# Altium footprint library DB_CONN.PcbLib: 18 footprints (part 1 of 2)
Each footprint in its own frame and in the unit in brackets; x right, y up, seen from the top. Pads: shape width x height; smd on the part's side, far side on the other; paste and mask are expansions set on the pad; w line width, h text height; cw(c..) or ccw(c..) is an arc to the next point about the centre after c.
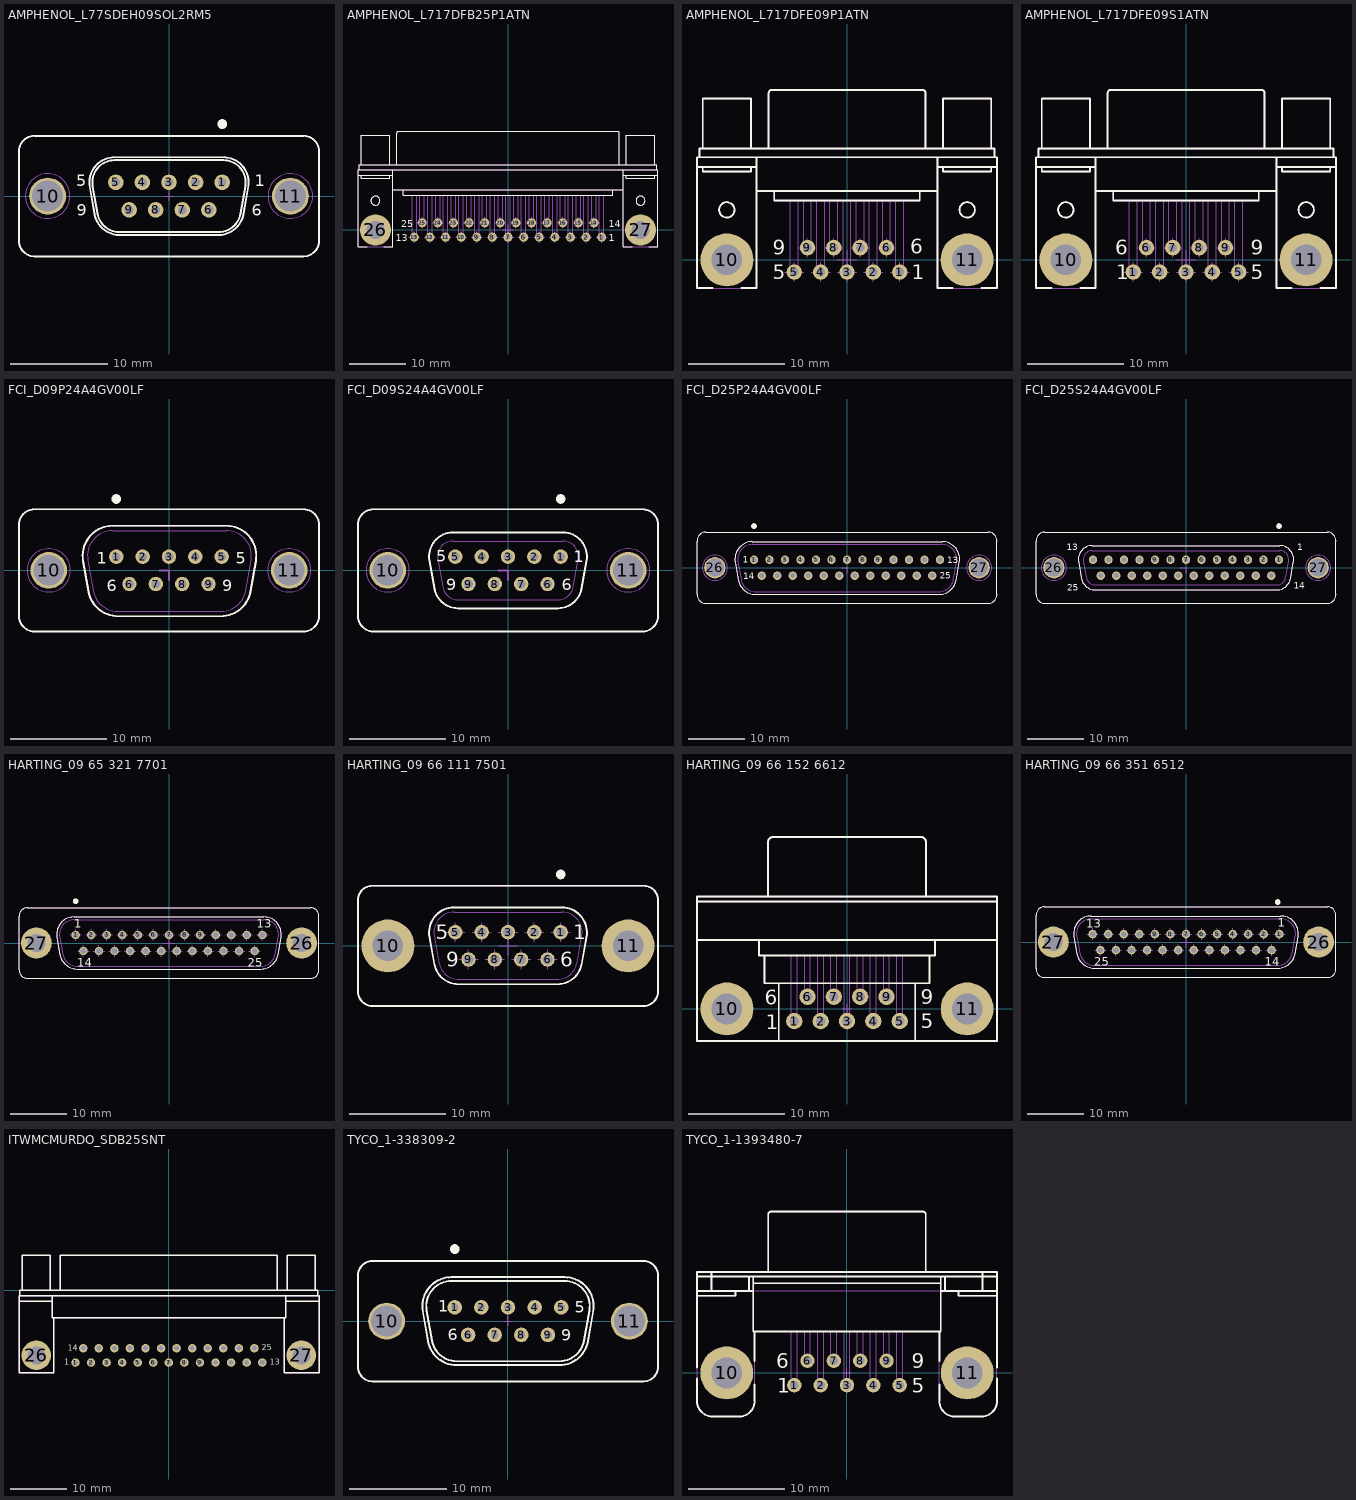
[diagram p0: the footprints below, top view; thin cyan lines are the x and y axes]

## AMPHENOL_L77SDEH09SOL2RM5 [mm] "Straight D-SUB 9 Female Contacts for PCB with Rear Insert (UNC4-40) and RM5 Standoff Boardlock"
height 13
pads (11):
  round 1.6 hole 0.9: 1(5.48,1.42) 2(2.74,1.42) 3(0,1.42) 4(-2.74,1.42) 5(-5.48,1.42) 6(4.11,-1.42) 7(1.37,-1.42) 8(-1.37,-1.42) 9(-4.11,-1.42)
  round 3.8 hole 3.2: 10(-12.495,0) 11(12.495,0)
Top Overlay:
  circle w0.5: c5.48,7.42 r0.25
  lines w0.2: -15.445,-4.61 ccw(c-13.845,-4.61) -13.845,-6.21 13.845,-6.21 ccw(c13.845,-4.61) 15.445,-4.61 15.445,4.61 ccw(c13.845,4.61) 13.845,6.21 -13.845,6.21 ccw(c-13.845,4.61) -15.445,4.61 -15.445,-4.61 ; -8.161,0.949 cw(c-5.6,1.4) -5.6,4 5.6,4 cw(c5.6,1.4) 8.16,0.949 7.667,-1.851 cw(c5.106,-1.4) 5.106,-4 -5.106,-4 cw(c-5.106,-1.4) -7.667,-1.851 -8.161,0.949 ; -7.865,1.001 cw(c-5.6,1.4) -5.6,3.7 5.6,3.7 cw(c5.6,1.4) 7.865,1.001 7.371,-1.799 cw(c5.106,-1.4) 5.106,-3.7 -5.106,-3.7 cw(c-5.106,-1.4) -7.372,-1.799 -7.865,1.001
  text "1" at 8.85,1 h1.2
  text "5" at -9.525,1 h1.2
  text "6" at 8.525,-2.05 h1.2
  text "9" at -9.5,-2.025 h1.2
Mechanical 8:
  lines w0.1: -12.995,0 -12.495,0 ; -12.495,-0.5 -12.495,0 ; -12.495,0.5 -12.495,0 ; -11.995,0 -12.495,0 ; -5.98,1.42 -5.48,1.42 ; -5.48,0.92 -5.48,1.42 ; -5.48,1.92 -5.48,1.42 ; -4.98,1.42 -5.48,1.42 ; -4.61,-1.42 -4.11,-1.42 ; -4.11,-1.92 -4.11,-1.42 ; -4.11,-0.92 -4.11,-1.42 ; -3.61,-1.42 -4.11,-1.42 ; -3.24,1.42 -2.74,1.42 ; -2.74,0.92 -2.74,1.42 ; -2.74,1.92 -2.74,1.42 ; -2.24,1.42 -2.74,1.42 ; -1.87,-1.42 -1.37,-1.42 ; -1.37,-1.92 -1.37,-1.42 ; -1.37,-0.92 -1.37,-1.42 ; -0.87,-1.42 -1.37,-1.42 ; -0.5,0 0,0 ; -0.5,1.42 0,1.42 ; 0,-0.5 0,0 ; 0,0.5 0,0 ; 0,0.92 0,1.42 ; 0,1.92 0,1.42 ; 0.5,0 0,0 ; 0.5,1.42 0,1.42 ; 0.87,-1.42 1.37,-1.42 ; 1.37,-1.92 1.37,-1.42 ; 1.37,-0.92 1.37,-1.42 ; 1.87,-1.42 1.37,-1.42 ; 2.24,1.42 2.74,1.42 ; 2.74,0.92 2.74,1.42 ; 2.74,1.92 2.74,1.42 ; 3.24,1.42 2.74,1.42 ; 3.61,-1.42 4.11,-1.42 ; 4.11,-1.92 4.11,-1.42 ; 4.11,-0.92 4.11,-1.42 ; 4.61,-1.42 4.11,-1.42 ; 4.98,1.42 5.48,1.42 ; 5.48,0.92 5.48,1.42 ; 5.48,1.92 5.48,1.42 ; 5.98,1.42 5.48,1.42 ; 11.995,0 12.495,0 ; 12.495,-0.5 12.495,0 ; 12.495,0.5 12.495,0 ; 12.995,0 12.495,0
Mechanical 14:
  circle w0.1: c12.495,0 r1.5
  circle w0.1: c12.495,0 r2.3
  circle w0.1: c-12.495,0 r1.5
  circle w0.1: c-12.495,0 r2.3
  circle w0.1: c1.37,-1.42 r0.4
  circle w0.1: c4.11,-1.42 r0.4
  circle w0.1: c5.48,1.42 r0.4
  circle w0.1: c2.74,1.42 r0.4
  circle w0.1: c0,1.42 r0.4
  circle w0.1: c-1.37,-1.42 r0.4
  circle w0.1: c-4.11,-1.42 r0.4
  circle w0.1: c-2.74,1.42 r0.4
  circle w0.1: c-5.48,1.42 r0.4
  lines w0.1: -15.445,-4.61 ccw(c-13.845,-4.61) -13.845,-6.21 13.845,-6.21 ccw(c13.845,-4.61) 15.445,-4.61 15.445,4.61 ccw(c13.845,4.61) 13.845,6.21 -13.845,6.21 ccw(c-13.845,4.61) -15.445,4.61 -15.445,-4.61 ; -8.161,0.949 cw(c-5.6,1.4) -5.6,4 5.6,4 cw(c5.6,1.4) 8.16,0.949 7.667,-1.851 cw(c5.106,-1.4) 5.106,-4 -5.106,-4 cw(c-5.106,-1.4) -7.667,-1.851 -8.161,0.949 ; -7.865,1.001 cw(c-5.6,1.4) -5.6,3.7 5.6,3.7 cw(c5.6,1.4) 7.865,1.001 7.371,-1.799 cw(c5.106,-1.4) 5.106,-3.7 -5.106,-3.7 cw(c-5.106,-1.4) -7.372,-1.799 -7.865,1.001
  text "9" at -9.5,-2.025 h1.2
  text "6" at 8.525,-2.05 h1.2
  text "5" at -9.525,1 h1.2
  text "1" at 8.85,1 h1.2
3D body "AMPHENOL_L77SDEH09SOL2RM5.stp": height 13, standoff -4.2, extent -15.445,-6.21 15.445,6.21

## AMPHENOL_L717DFB25P1ATN [mm] "Right Angled D-Sub 25 Male Contacts with Metal Bracket and Front Female Screwlock (UNC4-40)"
height 13.4
pads (27):
  round 1.6 hole 0.9: 1(16.62,-1.27) 2(13.85,-1.27) 3(11.08,-1.27) 4(8.31,-1.27) 5(5.54,-1.27) 6(2.77,-1.27) 7(0,-1.27) 8(-2.77,-1.27) 9(-5.54,-1.27) 10(-8.31,-1.27) 11(-11.08,-1.27) 12(-13.85,-1.27) 13(-16.62,-1.27) 14(15.25,1.27) 15(12.48,1.27) 16(9.71,1.27) 17(6.94,1.27) 18(4.17,1.27) 19(1.4,1.27) 20(-1.37,1.27) 21(-4.14,1.27) 22(-6.91,1.27) 23(-9.68,1.27) 24(-12.45,1.27) 25(-15.22,1.27)
  round 5.5 hole 3.2: 26(-23.5,0) 27(23.5,0)
Top Overlay:
  circle w0.2: c-23.5,5.2 r0.8
  circle w0.2: c23.5,5.2 r0.8
  lines w0.2: -26.35,10.67 -26.35,11.57 26.35,11.57 26.35,10.67 ; -26,9.67 -26,9.17 -21,9.17 -21,9.67 ; -26,11.57 -26,16.77 -21,16.77 -21,11.57 ; -25,-2.93 -26.6,-2.93 -26.6,10.67 26.6,10.67 26.6,-2.93 25,-2.93 ; -22,-2.93 -20.4,-2.93 -20.4,10.67 ; -20.539,9.67 -26.6,9.67 -20.4,9.67 ; -20.4,7.17 20.4,7.17 ; -19.751,11.57 -19.751,17.17 cw(c-19.451,17.17) -19.451,17.47 19.452,17.47 cw(c19.452,17.17) 19.752,17.17 19.752,11.57 ; -18.57,7.17 -18.57,6.17 18.57,6.17 18.57,7.17 ; 20.4,9.67 26.6,9.67 ; 20.4,10.67 20.4,-2.93 22,-2.93 ; 21,9.67 21,9.17 26,9.17 26,9.67 ; 21,11.57 21,16.77 26,16.77 26,11.57
  text "1" at 17.871,-2.032 h1.2
  text "14" at 17.871,0.508 h1.2
  text "13" at -19.9,-2 h1.2
  text "25" at -18.887,0.508 h1.2
Mechanical 8:
  lines w0.1: -24.5,0 -23.5,0 ; -23.5,-1 -23.5,0 ; -23.5,1 -23.5,0 ; -22.5,0 -23.5,0 ; -17.62,-1.27 -16.62,-1.27 ; -16.62,-2.27 -16.62,-1.27 ; -16.62,-0.27 -16.62,-1.27 ; -16.22,1.27 -15.22,1.27 ; -15.62,-1.27 -16.62,-1.27 ; -15.22,0.27 -15.22,1.27 ; -15.22,2.27 -15.22,1.27 ; -14.85,-1.27 -13.85,-1.27 ; -14.22,1.27 -15.22,1.27 ; -13.85,-2.27 -13.85,-1.27 ; -13.85,-0.27 -13.85,-1.27 ; -13.45,1.27 -12.45,1.27 ; -12.85,-1.27 -13.85,-1.27 ; -12.45,0.27 -12.45,1.27 ; -12.45,2.27 -12.45,1.27 ; -12.08,-1.27 -11.08,-1.27 ; -11.45,1.27 -12.45,1.27 ; -11.08,-2.27 -11.08,-1.27 ; -11.08,-0.27 -11.08,-1.27 ; -10.68,1.27 -9.68,1.27 ; -10.08,-1.27 -11.08,-1.27 ; -9.68,0.27 -9.68,1.27 ; -9.68,2.27 -9.68,1.27 ; -9.31,-1.27 -8.31,-1.27 ; -8.68,1.27 -9.68,1.27 ; -8.31,-2.27 -8.31,-1.27 ; -8.31,-0.27 -8.31,-1.27 ; -7.91,1.27 -6.91,1.27 ; -7.31,-1.27 -8.31,-1.27 ; -6.91,0.27 -6.91,1.27 ; -6.91,2.27 -6.91,1.27 ; -6.54,-1.27 -5.54,-1.27 ; -5.91,1.27 -6.91,1.27 ; -5.54,-2.27 -5.54,-1.27 ; -5.54,-0.27 -5.54,-1.27 ; -5.14,1.27 -4.14,1.27 ; -4.54,-1.27 -5.54,-1.27 ; -4.14,0.27 -4.14,1.27 ; -4.14,2.27 -4.14,1.27 ; -3.77,-1.27 -2.77,-1.27 ; -3.14,1.27 -4.14,1.27 ; -2.77,-2.27 -2.77,-1.27 ; -2.77,-0.27 -2.77,-1.27 ; -2.37,1.27 -1.37,1.27 ; -1.77,-1.27 -2.77,-1.27 ; -1.37,0.27 -1.37,1.27 ; -1.37,2.27 -1.37,1.27 ; -1,-1.27 0,-1.27 ; -0.37,1.27 -1.37,1.27 ; 0,-2.27 0,-1.27 ; 0,-0.27 0,-1.27 ; 0.4,1.27 1.4,1.27 ; 1,-1.27 0,-1.27 ; 1.4,0.27 1.4,1.27 ; 1.4,2.27 1.4,1.27 ; 1.77,-1.27 2.77,-1.27 ; 2.4,1.27 1.4,1.27 ; 2.77,-2.27 2.77,-1.27 ; 2.77,-0.27 2.77,-1.27 ; 3.17,1.27 4.17,1.27 ; 3.77,-1.27 2.77,-1.27 ; 4.17,0.27 4.17,1.27 ; 4.17,2.27 4.17,1.27 ; 4.54,-1.27 5.54,-1.27 ; 5.17,1.27 4.17,1.27 ; 5.54,-2.27 5.54,-1.27 ; 5.54,-0.27 5.54,-1.27 ; 5.94,1.27 6.94,1.27 ; 6.54,-1.27 5.54,-1.27 ; 6.94,0.27 6.94,1.27 ; 6.94,2.27 6.94,1.27 ; 7.31,-1.27 8.31,-1.27 ; 7.94,1.27 6.94,1.27 ; 8.31,-2.27 8.31,-1.27 ; 8.31,-0.27 8.31,-1.27 ; 8.71,1.27 9.71,1.27 ; 9.31,-1.27 8.31,-1.27 ; 9.71,0.27 9.71,1.27 ; 9.71,2.27 9.71,1.27 ; 10.08,-1.27 11.08,-1.27 ; 10.71,1.27 9.71,1.27 ; 11.08,-2.27 11.08,-1.27 ; 11.08,-0.27 11.08,-1.27 ; 11.48,1.27 12.48,1.27 ; 12.08,-1.27 11.08,-1.27 ; 12.48,0.27 12.48,1.27 ; 12.48,2.27 12.48,1.27 ; 12.85,-1.27 13.85,-1.27 ; 13.48,1.27 12.48,1.27 ; 13.85,-2.27 13.85,-1.27 ; 13.85,-0.27 13.85,-1.27 ; 14.25,1.27 15.25,1.27 ; 14.85,-1.27 13.85,-1.27 ; 15.25,0.27 15.25,1.27 ; 15.25,2.27 15.25,1.27 ; 15.62,-1.27 16.62,-1.27 ; 16.25,1.27 15.25,1.27 ; 16.62,-2.27 16.62,-1.27 ; 16.62,-0.27 16.62,-1.27 ; 17.62,-1.27 16.62,-1.27 ; 22.5,0 23.5,0 ; 23.5,-1 23.5,0 ; 23.5,1 23.5,0 ; 24.5,0 23.5,0 ; 0,0 0,-1 0,0 ; 0,0 0,1 0,0 ; 0,0 1,0 0,0 ; 0,0 -1,0 0,0
Mechanical 14:
  circle w0.1: c-23.5,0 r1.6
  circle w0.1: c-23.5,5.2 r0.8
  circle w0.1: c23.5,5.2 r0.8
  circle w0.1: c23.5,0 r1.6
  lines w0.1: -26.35,10.67 -26.35,11.57 26.35,11.57 26.35,10.67 ; -26,9.67 -26,9.17 -21,9.17 -21,9.67 ; -26,11.57 -26,16.77 -21,16.77 -21,11.57 ; -20.539,9.67 -26.6,9.67 -20.4,9.67 ; -20.4,7.17 20.4,7.17 ; -20.4,10.67 -20.4,-2.93 -26.6,-2.93 -26.6,10.67 26.6,10.67 26.6,-2.93 20.4,-2.93 20.4,10.67 ; -19.751,11.57 -19.751,17.17 cw(c-19.451,17.17) -19.451,17.47 19.452,17.47 cw(c19.452,17.17) 19.752,17.17 19.752,11.57 ; -18.57,7.17 -18.57,6.17 18.57,6.17 18.57,7.17 ; -17.02,6.17 -17.02,-1.27 ccw(c-16.62,-1.27) -16.22,-1.27 -16.22,6.17 ; -15.62,6.17 -15.62,1.27 ccw(c-15.22,1.27) -14.82,1.27 -14.82,6.17 ; -14.25,6.17 -14.25,-1.27 ccw(c-13.85,-1.27) -13.45,-1.27 -13.45,6.17 ; -12.85,6.17 -12.85,1.27 ccw(c-12.45,1.27) -12.05,1.27 -12.05,6.17 ; -11.48,6.17 -11.48,-1.27 ccw(c-11.08,-1.27) -10.68,-1.27 -10.68,6.17 ; -10.08,6.17 -10.08,1.27 ccw(c-9.68,1.27) -9.28,1.27 -9.28,6.17 ; -8.71,6.17 -8.71,-1.27 ccw(c-8.31,-1.27) -7.91,-1.27 -7.91,6.17 ; -7.31,6.17 -7.31,1.27 ccw(c-6.91,1.27) -6.51,1.27 -6.51,6.17 ; -5.94,6.17 -5.94,-1.27 ccw(c-5.54,-1.27) -5.14,-1.27 -5.14,6.17 ; -4.54,6.17 -4.54,1.27 ccw(c-4.14,1.27) -3.74,1.27 -3.74,6.17 ; -3.17,6.17 -3.17,-1.27 ccw(c-2.77,-1.27) -2.37,-1.27 -2.37,6.17 ; -1.77,6.17 -1.77,1.27 ccw(c-1.37,1.27) -0.97,1.27 -0.97,6.17 ; -0.4,6.17 -0.4,-1.27 ccw(c0,-1.27) 0.4,-1.27 0.4,6.17 ; 1,6.17 1,1.27 ccw(c1.4,1.27) 1.8,1.27 1.8,6.17 ; 2.37,6.17 2.37,-1.27 ccw(c2.77,-1.27) 3.17,-1.27 3.17,6.17 ; 3.77,6.17 3.77,1.27 ccw(c4.17,1.27) 4.57,1.27 4.57,6.17 ; 5.14,6.17 5.14,-1.27 ccw(c5.54,-1.27) 5.94,-1.27 5.94,6.17 ; 6.54,6.17 6.54,1.27 ccw(c6.94,1.27) 7.34,1.27 7.34,6.17 ; 7.91,6.17 7.91,-1.27 ccw(c8.31,-1.27) 8.71,-1.27 8.71,6.17 ; 9.31,6.17 9.31,1.27 ccw(c9.71,1.27) 10.11,1.27 10.11,6.17 ; 10.68,6.17 10.68,-1.27 ccw(c11.08,-1.27) 11.48,-1.27 11.48,6.17 ; 12.08,6.17 12.08,1.27 ccw(c12.48,1.27) 12.88,1.27 12.88,6.17 ; 13.45,6.17 13.45,-1.27 ccw(c13.85,-1.27) 14.25,-1.27 14.25,6.17 ; 14.85,6.17 14.85,1.27 ccw(c15.25,1.27) 15.65,1.27 15.65,6.17 ; 16.22,6.17 16.22,-1.27 ccw(c16.62,-1.27) 17.02,-1.27 17.02,6.17 ; 20.4,9.67 26.6,9.67 ; 21,9.67 21,9.17 26,9.17 26,9.67 ; 21,11.57 21,16.77 26,16.77 26,11.57
3D body "AMPHENOL_L717DFA25P1ATN.stp": height 13.45, standoff -3.95, extent -26.6,-2.93 26.6,17.47

## AMPHENOL_L717DFE09P1ATN [mm] "Right Angled D-Sub 9 Male Contacts with Metal Bracket and Front Female Screwlock (UNC4-40)"
height 13.4
pads (11):
  round 1.6 hole 0.9: 1(5.48,-1.27) 2(2.74,-1.27) 3(0,-1.27) 4(-2.74,-1.27) 5(-5.48,-1.27) 6(4.11,1.27) 7(1.37,1.27) 8(-1.37,1.27) 9(-4.11,1.27)
  round 5.5 hole 3.2: 10(-12.495,0) 11(12.495,0)
Top Overlay:
  circle w0.2: c-12.5,5.2 r0.8
  circle w0.2: c12.5,5.2 r0.8
  lines w0.2: -15.35,10.67 -15.35,11.57 15.35,11.57 15.35,10.67 ; -15,9.67 -15,9.17 -10,9.17 -10,9.67 ; -15,11.57 -15,16.77 -10,16.77 -10,11.57 ; -14,-2.93 -15.6,-2.93 -15.6,10.67 15.6,10.67 15.6,-2.93 14,-2.93 ; -11,-2.93 -9.4,-2.93 -9.4,10.67 ; -9.539,9.67 -15.6,9.67 -9.4,9.67 ; -9.4,7.17 9.4,7.17 ; -8.142,11.57 -8.142,17.37 cw(c-7.842,17.37) -7.842,17.67 7.861,17.67 cw(c7.861,17.37) 8.161,17.37 8.161,11.57 ; -7.57,7.17 -7.57,6.17 7.57,6.17 7.57,7.17 ; 9.4,9.67 15.6,9.67 ; 9.4,10.67 9.4,-2.93 11,-2.93 ; 10,9.67 10,9.17 15,9.17 15,9.67 ; 10,11.57 10,16.77 15,16.77 15,11.57
  text "6" at 6.604,0.635 h1.5
  text "5" at -7.747,-2.032 h1.5
  text "1" at 6.731,-2.032 h1.5
  text "9" at -7.747,0.508 h1.5
Mechanical 8:
  lines w0.1: -13.5,0 -12.5,0 ; -12.5,-1 -12.5,0 ; -12.5,1 -12.5,0 ; -11.5,0 -12.5,0 ; -6.48,-1.27 -5.48,-1.27 ; -5.48,-2.27 -5.48,-1.27 ; -5.48,-0.27 -5.48,-1.27 ; -5.11,1.27 -4.11,1.27 ; -4.48,-1.27 -5.48,-1.27 ; -4.11,0.27 -4.11,1.27 ; -4.11,2.27 -4.11,1.27 ; -3.74,-1.27 -2.74,-1.27 ; -3.11,1.27 -4.11,1.27 ; -2.74,-2.27 -2.74,-1.27 ; -2.74,-0.27 -2.74,-1.27 ; -2.37,1.27 -1.37,1.27 ; -1.74,-1.27 -2.74,-1.27 ; -1.37,0.27 -1.37,1.27 ; -1.37,2.27 -1.37,1.27 ; -1,-1.27 0,-1.27 ; -1,0 0,0 ; -0.37,1.27 -1.37,1.27 ; 0,-2.27 0,-1.27 ; 0,-1 0,0 ; 0,-0.27 0,-1.27 ; 0,1 0,0 ; 0.37,1.27 1.37,1.27 ; 1,-1.27 0,-1.27 ; 1,0 0,0 ; 1.37,0.27 1.37,1.27 ; 1.37,2.27 1.37,1.27 ; 1.74,-1.27 2.74,-1.27 ; 2.37,1.27 1.37,1.27 ; 2.74,-2.27 2.74,-1.27 ; 2.74,-0.27 2.74,-1.27 ; 3.11,1.27 4.11,1.27 ; 3.74,-1.27 2.74,-1.27 ; 4.11,0.27 4.11,1.27 ; 4.11,2.27 4.11,1.27 ; 4.48,-1.27 5.48,-1.27 ; 5.11,1.27 4.11,1.27 ; 5.48,-2.27 5.48,-1.27 ; 5.48,-0.27 5.48,-1.27 ; 6.48,-1.27 5.48,-1.27 ; 11.5,0 12.5,0 ; 12.5,-1 12.5,0 ; 12.5,1 12.5,0 ; 13.5,0 12.5,0
Mechanical 14:
  circle w0.1: c-12.5,0 r1.6
  circle w0.1: c-12.5,5.2 r0.8
  circle w0.1: c12.5,5.2 r0.8
  circle w0.1: c12.5,0 r1.6
  lines w0.1: -15.35,10.67 -15.35,11.57 15.35,11.57 15.35,10.67 ; -15,9.67 -15,9.17 -10,9.17 -10,9.67 ; -15,11.57 -15,16.77 -10,16.77 -10,11.57 ; -9.539,9.67 -15.6,9.67 -9.4,9.67 ; -9.4,7.17 9.4,7.17 ; -9.4,10.67 -9.4,-2.93 -15.6,-2.93 -15.6,10.67 15.6,10.67 15.6,-2.93 9.4,-2.93 9.4,10.67 ; -8.142,11.57 -8.142,17.37 cw(c-7.842,17.37) -7.842,17.67 7.861,17.67 cw(c7.861,17.37) 8.161,17.37 8.161,11.57 ; -7.57,7.17 -7.57,6.17 7.57,6.17 7.57,7.17 ; -5.88,6.17 -5.88,-1.27 ccw(c-5.48,-1.27) -5.08,-1.27 -5.08,6.17 ; -4.51,6.17 -4.51,1.27 ccw(c-4.11,1.27) -3.71,1.27 -3.71,6.17 ; -3.14,6.17 -3.14,-1.27 ccw(c-2.74,-1.27) -2.34,-1.27 -2.34,6.17 ; -1.77,6.17 -1.77,1.27 ccw(c-1.37,1.27) -0.97,1.27 -0.97,6.17 ; -0.4,6.17 -0.4,-1.27 ccw(c0,-1.27) 0.4,-1.27 0.4,6.17 ; 0.97,6.17 0.97,1.27 ccw(c1.37,1.27) 1.77,1.27 1.77,6.17 ; 2.34,6.17 2.34,-1.27 ccw(c2.74,-1.27) 3.14,-1.27 3.14,6.17 ; 3.71,6.17 3.71,1.27 ccw(c4.11,1.27) 4.51,1.27 4.51,6.17 ; 5.08,6.17 5.08,-1.27 ccw(c5.48,-1.27) 5.88,-1.27 5.88,6.17 ; 9.4,9.67 15.6,9.67 ; 10,9.67 10,9.17 15,9.17 15,9.67 ; 10,11.57 10,16.77 15,16.77 15,11.57
3D body "AMPHENOL_L717DFE09P1ATN.stp": height 13.45, standoff -3.95, extent -15.6,-2.93 15.6,17.67

## AMPHENOL_L717DFE09S1ATN [mm] "Right Angled D-Sub 9 Female Contacts with Metal Bracket and Front Female Screwlock (UNC4-40)"
height 13.4
pads (11):
  round 1.6 hole 0.9: 1(-5.48,-1.27) 2(-2.74,-1.27) 3(0,-1.27) 4(2.74,-1.27) 5(5.48,-1.27) 6(-4.11,1.27) 7(-1.37,1.27) 8(1.37,1.27) 9(4.11,1.27)
  round 5.5 hole 3.2: 10(-12.495,0) 11(12.495,0)
Top Overlay:
  circle w0.2: c12.5,5.2 r0.8
  circle w0.2: c-12.5,5.2 r0.8
  lines w0.2: -15.35,10.67 -15.35,11.57 15.35,11.57 15.35,10.67 ; -15,9.67 -15,9.17 -10,9.17 -10,9.67 ; -15,11.57 -15,16.77 -10,16.77 -10,11.57 ; -14,-2.93 -15.6,-2.93 -15.6,10.67 15.6,10.67 15.6,-2.93 14,-2.93 ; -11,-2.93 -9.4,-2.93 -9.4,10.67 ; -9.539,9.67 -15.6,9.67 -9.4,9.67 ; -9.4,7.17 9.4,7.17 ; -8.142,11.57 -8.142,17.37 cw(c-7.842,17.37) -7.842,17.67 7.861,17.67 cw(c7.861,17.37) 8.161,17.37 8.161,11.57 ; -7.57,7.17 -7.57,6.17 7.57,6.17 7.57,7.17 ; 9.4,9.67 15.6,9.67 ; 9.4,10.67 9.4,-2.93 11,-2.93 ; 10,9.67 10,9.17 15,9.17 15,9.67 ; 10,11.57 10,16.77 15,16.77 15,11.57
  text "6" at -7.366,0.508 h1.5
  text "5" at 6.731,-2.032 h1.5
  text "1" at -7.239,-2.032 h1.5
  text "9" at 6.731,0.508 h1.5
Mechanical 8:
  lines w0.1: -13.5,0 -12.5,0 ; -12.5,-1 -12.5,0 ; -12.5,1 -12.5,0 ; -11.5,0 -12.5,0 ; -6.48,-1.27 -5.48,-1.27 ; -5.48,-2.27 -5.48,-1.27 ; -5.48,-0.27 -5.48,-1.27 ; -5.11,1.27 -4.11,1.27 ; -4.48,-1.27 -5.48,-1.27 ; -4.11,0.27 -4.11,1.27 ; -4.11,2.27 -4.11,1.27 ; -3.74,-1.27 -2.74,-1.27 ; -3.11,1.27 -4.11,1.27 ; -2.74,-2.27 -2.74,-1.27 ; -2.74,-0.27 -2.74,-1.27 ; -2.37,1.27 -1.37,1.27 ; -1.74,-1.27 -2.74,-1.27 ; -1.37,0.27 -1.37,1.27 ; -1.37,2.27 -1.37,1.27 ; -1,-1.27 0,-1.27 ; -1,0 0,0 ; -0.37,1.27 -1.37,1.27 ; 0,-2.27 0,-1.27 ; 0,-1 0,0 ; 0,-0.27 0,-1.27 ; 0,1 0,0 ; 0.37,1.27 1.37,1.27 ; 1,-1.27 0,-1.27 ; 1,0 0,0 ; 1.37,0.27 1.37,1.27 ; 1.37,2.27 1.37,1.27 ; 1.74,-1.27 2.74,-1.27 ; 2.37,1.27 1.37,1.27 ; 2.74,-2.27 2.74,-1.27 ; 2.74,-0.27 2.74,-1.27 ; 3.11,1.27 4.11,1.27 ; 3.74,-1.27 2.74,-1.27 ; 4.11,0.27 4.11,1.27 ; 4.11,2.27 4.11,1.27 ; 4.48,-1.27 5.48,-1.27 ; 5.11,1.27 4.11,1.27 ; 5.48,-2.27 5.48,-1.27 ; 5.48,-0.27 5.48,-1.27 ; 6.48,-1.27 5.48,-1.27 ; 11.5,0 12.5,0 ; 12.5,-1 12.5,0 ; 12.5,1 12.5,0 ; 13.5,0 12.5,0
Mechanical 14:
  circle w0.1: c12.5,0 r1.6
  circle w0.1: c12.5,5.2 r0.8
  circle w0.1: c-12.5,5.2 r0.8
  circle w0.1: c-12.5,0 r1.6
  lines w0.1: -15.35,10.67 -15.35,11.57 15.35,11.57 15.35,10.67 ; -15,9.67 -15,9.17 -10,9.17 -10,9.67 ; -15,11.57 -15,16.77 -10,16.77 -10,11.57 ; -9.539,9.67 -15.6,9.67 -9.4,9.67 ; -9.4,7.17 9.4,7.17 ; -9.4,10.67 -9.4,-2.93 -15.6,-2.93 -15.6,10.67 15.6,10.67 15.6,-2.93 9.4,-2.93 9.4,10.67 ; -8.142,11.57 -8.142,17.37 cw(c-7.842,17.37) -7.842,17.67 7.861,17.67 cw(c7.861,17.37) 8.161,17.37 8.161,11.57 ; -7.57,7.17 -7.57,6.17 7.57,6.17 7.57,7.17 ; -5.88,6.17 -5.88,-1.27 ccw(c-5.48,-1.27) -5.08,-1.27 -5.08,6.17 ; -4.51,6.17 -4.51,1.27 ccw(c-4.11,1.27) -3.71,1.27 -3.71,6.17 ; -3.14,6.17 -3.14,-1.27 ccw(c-2.74,-1.27) -2.34,-1.27 -2.34,6.17 ; -1.77,6.17 -1.77,1.27 ccw(c-1.37,1.27) -0.97,1.27 -0.97,6.17 ; -0.4,6.17 -0.4,-1.27 ccw(c0,-1.27) 0.4,-1.27 0.4,6.17 ; 0.97,6.17 0.97,1.27 ccw(c1.37,1.27) 1.77,1.27 1.77,6.17 ; 2.34,6.17 2.34,-1.27 ccw(c2.74,-1.27) 3.14,-1.27 3.14,6.17 ; 3.71,6.17 3.71,1.27 ccw(c4.11,1.27) 4.51,1.27 4.51,6.17 ; 5.08,6.17 5.08,-1.27 ccw(c5.48,-1.27) 5.88,-1.27 5.88,6.17 ; 9.4,9.67 15.6,9.67 ; 10,9.67 10,9.17 15,9.17 15,9.67 ; 10,11.57 10,16.77 15,16.77 15,11.57
3D body "AMPHENOL_L717DFE09S1ATN.stp": height 13.45, standoff -3.95, extent -15.6,-2.93 15.6,17.67

## FCI_D09P24A4GV00LF [mm] "Straight D-SUB 9 Male Contacts for PCB  with Harpoons and Female Screwlock (UNC4-40) and Elec. Continuity"
height 12.25
pads (11):
  round 1.5 hole 0.9: 1(-5.48,1.42) 2(-2.74,1.42) 3(0,1.42) 4(2.74,1.42) 5(5.48,1.42) 6(-4.11,-1.42) 7(-1.37,-1.42) 8(1.37,-1.42) 9(4.11,-1.42)
  round 3.8 hole 3.2: 10(-12.495,0) 11(12.495,0)
Top Overlay:
  circle w0.5: c-5.48,7.42 r0.25
  lines w0.2: -15.595,-4.75 ccw(c-13.995,-4.75) -13.995,-6.35 13.995,-6.35 ccw(c13.995,-4.75) 15.595,-4.75 15.595,4.75 ccw(c13.995,4.75) 13.995,6.35 -13.995,6.35 ccw(c-13.995,4.75) -15.595,4.75 -15.595,-4.75 ; -8.928,0.978 cw(c-5.855,1.52) -5.855,4.64 5.955,4.64 cw(c5.955,1.52) 9.028,0.978 8.469,-2.192 cw(c5.396,-1.65) 5.396,-4.77 -5.296,-4.77 cw(c-5.296,-1.65) -8.369,-2.192 -8.928,0.978
  text "9" at 5.535,-2.17 h1.2
  text "1" at -7.505,0.67 h1.2
  text "5" at 6.93,0.695 h1.2
  text "6" at -6.46,-2.17 h1.2
Mechanical 8:
  lines w0.2: -1,0 0,0 0,-1
Mechanical 14:
  circle w0.1: c12.495,0 r2.25
  circle w0.1: c-12.495,0 r2.25
  lines w0.1: -15.595,-4.75 ccw(c-13.995,-4.75) -13.995,-6.35 13.995,-6.35 ccw(c13.995,-4.75) 15.595,-4.75 15.595,4.75 ccw(c13.995,4.75) 13.995,6.35 -13.995,6.35 ccw(c-13.995,4.75) -15.595,4.75 -15.595,-4.75 ; -8.928,0.978 cw(c-5.855,1.52) -5.855,4.64 5.955,4.64 cw(c5.955,1.52) 9.028,0.978 8.469,-2.192 cw(c5.396,-1.65) 5.396,-4.77 -5.296,-4.77 cw(c-5.296,-1.65) -8.369,-2.192 -8.928,0.978 ; -8.435,1.065 cw(c-5.855,1.52) -5.855,4.14 5.955,4.14 cw(c5.955,1.52) 8.535,1.065 7.976,-2.105 cw(c5.396,-1.65) 5.396,-4.27 -5.296,-4.27 cw(c-5.296,-1.65) -7.876,-2.105 -8.435,1.065
  text "9 D-Sub Male" at -6.053,4.872 h1.2
  text "6" at -6.46,-2.17 h1.2
  text "5" at 6.93,0.695 h1.2
  text "1" at -7.505,0.67 h1.2
  text "9" at 5.535,-2.17 h1.2
3D body "FCI_D09P24A4GV00LF.stp": height 12, standoff -3, extent -15.495,-6.275 15.495,6.275

## FCI_D09S24A4GV00LF [mm] "Straight D-SUB 9 Female Contacts for PCB  with Harpoons and Female Screwlock (UNC4-40) and Elec. Continuity"
height 12.39
pads (11):
  round 1.5 hole 0.9: 1(5.48,1.42) 2(2.74,1.42) 3(0,1.42) 4(-2.74,1.42) 5(-5.48,1.42) 6(4.11,-1.42) 7(1.37,-1.42) 8(-1.37,-1.42) 9(-4.11,-1.42)
  round 3.8 hole 3.2: 10(-12.495,0) 11(12.495,0)
Top Overlay:
  circle w0.5: c5.48,7.42 r0.25
  lines w0.2: -15.595,-4.75 ccw(c-13.995,-4.75) -13.995,-6.35 13.995,-6.35 ccw(c13.995,-4.75) 15.595,-4.75 15.595,4.75 ccw(c13.995,4.75) 13.995,6.35 -13.995,6.35 ccw(c-13.995,4.75) -15.595,4.75 -15.595,-4.75 ; -8.167,1.011 cw(c-5.705,1.445) -5.705,3.945 5.705,3.945 cw(c5.705,1.445) 8.167,1.011 7.657,-1.879 cw(c5.195,-1.445) 5.195,-3.945 -5.195,-3.945 cw(c-5.195,-1.445) -7.657,-1.879 -8.167,1.011
  text "1" at 6.855,0.82 h1.2
  text "5" at -7.48,0.895 h1.2
  text "6" at 5.585,-2.045 h1.2
  text "9" at -6.41,-2.045 h1.2
Mechanical 8:
  lines w0.2: -1,0 0,0 0,-1
Mechanical 14:
  circle w0.1: c12.495,0 r2.25
  circle w0.1: c-12.495,0 r2.25
  lines w0.1: -15.595,-4.75 ccw(c-13.995,-4.75) -13.995,-6.35 13.995,-6.35 ccw(c13.995,-4.75) 15.595,-4.75 15.595,4.75 ccw(c13.995,4.75) 13.995,6.35 -13.995,6.35 ccw(c-13.995,4.75) -15.595,4.75 -15.595,-4.75 ; -8.167,1.011 cw(c-5.705,1.445) -5.705,3.945 5.705,3.945 cw(c5.705,1.445) 8.167,1.011 7.657,-1.879 cw(c5.195,-1.445) 5.195,-3.945 -5.195,-3.945 cw(c-5.195,-1.445) -7.657,-1.879 -8.167,1.011 ; -7.291,1.167 cw(c-5.715,1.445) -5.715,3.045 5.715,3.045 cw(c5.715,1.445) 7.291,1.167 6.781,-1.723 cw(c5.205,-1.445) 5.205,-3.045 -5.205,-3.045 cw(c-5.205,-1.445) -6.781,-1.723 -7.291,1.167
  text "9 D-Sub Female" at -6.178,4.472 h1.2
  text "9" at -9.5,-2.025 h1.2
  text "6" at 8.525,-2.05 h1.2
  text "5" at -9.525,1 h1.2
  text "1" at 8.85,1 h1.2
3D body "FCI_D09S24A4GV00LF.stp": height 12.1, standoff -3, extent -15.495,-6.653 15.495,6.21

## FCI_D25P24A4GV00LF [mm] "Straight D-SUB 25 Male Contacts for PCB  with Harpoons and Female Screwlock (UNC4-40) and Elec. Continuity"
height 12.05
pads (27):
  round 1.5 hole 0.9: 1(-16.56,1.42) 2(-13.8,1.42) 3(-11.04,1.42) 4(-8.28,1.42) 5(-5.52,1.42) 6(-2.76,1.42) 7(0,1.42) 8(2.76,1.42) 9(5.52,1.42) 10(8.28,1.42) 11(11.04,1.42) 12(13.8,1.42) 13(16.56,1.42) 14(-15.18,-1.42) 15(-12.42,-1.42) 16(-9.66,-1.42) 17(-6.9,-1.42) 18(-4.14,-1.42) 19(-1.38,-1.42) 20(1.38,-1.42) 21(4.14,-1.42) 22(6.9,-1.42) 23(9.66,-1.42) 24(12.42,-1.42) 25(15.18,-1.42)
  round 3.8 hole 3.2: 26(-23.52,0) 27(23.52,0)
Top Overlay:
  circle w0.5: c-16.56,7.42 r0.25
  lines w0.2: -26.705,-4.75 ccw(c-25.105,-4.75) -25.105,-6.35 25.105,-6.35 ccw(c25.105,-4.75) 26.705,-4.75 26.705,4.75 ccw(c25.105,4.75) 25.105,6.35 -25.105,6.35 ccw(c-25.105,4.75) -26.705,4.75 -26.705,-4.75 ; -19.903,0.978 cw(c-16.83,1.52) -16.83,4.64 16.93,4.64 cw(c16.93,1.52) 20.003,0.978 19.444,-2.192 cw(c16.371,-1.65) 16.371,-4.77 -16.271,-4.77 cw(c-16.271,-1.65) -19.344,-2.192 -19.903,0.978
  text "14" at -18.475,-2.05 h1.2
  text "13" at 17.825,0.825 h1.2
  text "1" at -18.575,0.85 h1.2
  text "25" at 16.55,-1.925 h1.2
Mechanical 8:
  lines w0.2: -1,0 0,0 0,-1
Mechanical 14:
  circle w0.1: c-23.52,0 r2.25
  circle w0.1: c23.52,0 r2.25
  lines w0.1: -26.705,-4.75 ccw(c-25.105,-4.75) -25.105,-6.35 25.105,-6.35 ccw(c25.105,-4.75) 26.705,-4.75 26.705,4.75 ccw(c25.105,4.75) 25.105,6.35 -25.105,6.35 ccw(c-25.105,4.75) -26.705,4.75 -26.705,-4.75 ; -19.903,0.978 cw(c-16.83,1.52) -16.83,4.64 16.93,4.64 cw(c16.93,1.52) 20.003,0.978 19.444,-2.192 cw(c16.371,-1.65) 16.371,-4.77 -16.271,-4.77 cw(c-16.271,-1.65) -19.344,-2.192 -19.903,0.978 ; -19.41,1.065 cw(c-16.83,1.52) -16.83,4.14 16.93,4.14 cw(c16.93,1.52) 19.51,1.065 18.951,-2.105 cw(c16.371,-1.65) 16.371,-4.27 -16.271,-4.27 cw(c-16.271,-1.65) -18.851,-2.105 -19.41,1.065
  text "25" at 16.55,-1.925 h1.2
  text "1" at -18.575,0.85 h1.2
  text "13" at 17.5,0.875 h1.2
  text "14" at -18.475,-2.05 h1.2
  text "25 D-Sub Male" at -6.478,4.872 h1.2
3D body "FCI_D25P24A4GV00LF.stp": height 12, standoff -3, extent -26.52,-6.275 26.52,6.275

## FCI_D25S24A4GV00LF [mm] "Straight D-SUB 25 Female Contacts for PCB  with Harpoons and Female Screwlock (UNC4-40) and Elec. Continuity"
height 12.39
pads (27):
  round 1.5 hole 0.9: 1(16.56,1.42) 2(13.8,1.42) 3(11.04,1.42) 4(8.28,1.42) 5(5.52,1.42) 6(2.76,1.42) 7(0,1.42) 8(-2.76,1.42) 9(-5.52,1.42) 10(-8.28,1.42) 11(-11.04,1.42) 12(-13.8,1.42) 13(-16.56,1.42) 14(15.18,-1.42) 15(12.42,-1.42) 16(9.66,-1.42) 17(6.9,-1.42) 18(4.14,-1.42) 19(1.38,-1.42) 20(-1.38,-1.42) 21(-4.14,-1.42) 22(-6.9,-1.42) 23(-9.66,-1.42) 24(-12.42,-1.42) 25(-15.18,-1.42)
  round 3.8 hole 3.2: 26(-23.52,0) 27(23.52,0)
Top Overlay:
  circle w0.5: c16.56,7.42 r0.25
  lines w0.2: -26.705,-4.75 ccw(c-25.105,-4.75) -25.105,-6.35 25.105,-6.35 ccw(c25.105,-4.75) 26.705,-4.75 26.705,4.75 ccw(c25.105,4.75) 25.105,6.35 -25.105,6.35 ccw(c-25.105,4.75) -26.705,4.75 -26.705,-4.75 ; -19.137,1.011 cw(c-16.675,1.445) -16.675,3.945 16.675,3.945 cw(c16.675,1.445) 19.137,1.011 18.627,-1.879 cw(c16.165,-1.445) 16.165,-3.945 -16.165,-3.945 cw(c-16.165,-1.445) -18.627,-1.879 -19.137,1.011
  text "25" at -21.1,-4.1 h1.2
  text "14" at 19.2,-3.75 h1.2
  text "1" at 19.775,3.1 h1.2
  text "13" at -21.225,3.125 h1.2
Mechanical 8:
  lines w0.2: -1,0 0,0 0,-1
Mechanical 14:
  circle w0.1: c-23.52,0 r2.25
  circle w0.1: c23.52,0 r2.25
  lines w0.1: -26.705,-4.75 ccw(c-25.105,-4.75) -25.105,-6.35 25.105,-6.35 ccw(c25.105,-4.75) 26.705,-4.75 26.705,4.75 ccw(c25.105,4.75) 25.105,6.35 -25.105,6.35 ccw(c-25.105,4.75) -26.705,4.75 -26.705,-4.75 ; -19.137,1.011 cw(c-16.675,1.445) -16.675,3.945 16.675,3.945 cw(c16.675,1.445) 19.137,1.011 18.627,-1.879 cw(c16.165,-1.445) 16.165,-3.945 -16.165,-3.945 cw(c-16.165,-1.445) -18.627,-1.879 -19.137,1.011 ; -18.261,1.167 cw(c-16.685,1.445) -16.685,3.045 16.685,3.045 cw(c16.685,1.445) 18.261,1.167 17.751,-1.723 cw(c16.175,-1.445) 16.175,-3.045 -16.175,-3.045 cw(c-16.175,-1.445) -17.751,-1.723 -18.261,1.167
  text "13" at -21.225,3.125 h1.2
  text "1" at 19.775,3.1 h1.2
  text "14" at 19.2,-3.75 h1.2
  text "25" at -21.1,-4.1 h1.2
  text "25 D-Sub Female" at -6.328,4.497 h1.2
3D body "FCI_D25S24A4GV00LF.stp": height 12.1, standoff -3, extent -26.52,-6.275 26.52,6.275

## HARTING_09 65 321 7701 [mm] "Straight D-Sub 25 Male Contacts with M3 Nut Thread"
height 12.2
pads (27):
  round 1.5 hole 1: 1(-16.56,1.42) 2(-13.8,1.42) 3(-11.04,1.42) 4(-8.28,1.42) 5(-5.52,1.42) 6(-2.76,1.42) 7(0,1.42) 8(2.76,1.42) 9(5.52,1.42) 10(8.28,1.42) 11(11.04,1.42) 12(13.8,1.42) 13(16.56,1.42) 14(-15.18,-1.42) 15(-12.42,-1.42) 16(-9.66,-1.42) 17(-6.9,-1.42) 18(-4.14,-1.42) 19(-1.38,-1.42) 20(1.38,-1.42) 21(4.14,-1.42) 22(6.9,-1.42) 23(9.66,-1.42) 24(12.42,-1.42) 25(15.18,-1.42)
  round 5.5 hole 3.2: 26(23.52,0) 27(-23.52,0)
Top Overlay:
  circle w0.5: c-16.56,7.42 r0.25
  lines w0.2: -26.6,-4.75 ccw(c-25.1,-4.75) -25.1,-6.25 25.1,-6.25 ccw(c25.1,-4.75) 26.6,-4.75 26.6,4.75 ccw(c25.1,4.75) 25.1,6.25 -25.1,6.25 ccw(c-25.1,4.75) -26.6,4.75 -26.6,-4.75 ; -19.883,0.977 cw(c-16.83,1.515) -16.83,4.615 16.83,4.615 cw(c16.83,1.515) 19.883,0.977 19.349,-2.053 cw(c16.296,-1.515) 16.296,-4.615 -16.296,-4.615 cw(c-16.296,-1.515) -19.349,-2.053 -19.883,0.977
  text "25" at 14,-4.2 h1.5
  text "1" at -16.8,2.7 h1.5
  text "14" at -16.3,-4.2 h1.5
  text "13" at 15.6,2.7 h1.5
Mechanical 8:
  lines w0.1: -24.52,0 -23.52,0 ; -23.52,-1 -23.52,0 ; -23.52,1 -23.52,0 ; -22.52,0 -23.52,0 ; -17.56,1.42 -16.56,1.42 ; -16.56,0.42 -16.56,1.42 ; -16.56,2.42 -16.56,1.42 ; -16.18,-1.42 -15.18,-1.42 ; -15.56,1.42 -16.56,1.42 ; -15.18,-2.42 -15.18,-1.42 ; -15.18,-0.42 -15.18,-1.42 ; -14.8,1.42 -13.8,1.42 ; -14.18,-1.42 -15.18,-1.42 ; -13.8,0.42 -13.8,1.42 ; -13.8,2.42 -13.8,1.42 ; -13.42,-1.42 -12.42,-1.42 ; -12.8,1.42 -13.8,1.42 ; -12.42,-2.42 -12.42,-1.42 ; -12.42,-0.42 -12.42,-1.42 ; -12.04,1.42 -11.04,1.42 ; -11.42,-1.42 -12.42,-1.42 ; -11.04,0.42 -11.04,1.42 ; -11.04,2.42 -11.04,1.42 ; -10.66,-1.42 -9.66,-1.42 ; -10.04,1.42 -11.04,1.42 ; -9.66,-2.42 -9.66,-1.42 ; -9.66,-0.42 -9.66,-1.42 ; -9.28,1.42 -8.28,1.42 ; -8.66,-1.42 -9.66,-1.42 ; -8.28,0.42 -8.28,1.42 ; -8.28,2.42 -8.28,1.42 ; -7.9,-1.42 -6.9,-1.42 ; -7.28,1.42 -8.28,1.42 ; -6.9,-2.42 -6.9,-1.42 ; -6.9,-0.42 -6.9,-1.42 ; -6.52,1.42 -5.52,1.42 ; -5.9,-1.42 -6.9,-1.42 ; -5.52,0.42 -5.52,1.42 ; -5.52,2.42 -5.52,1.42 ; -5.14,-1.42 -4.14,-1.42 ; -4.52,1.42 -5.52,1.42 ; -4.14,-2.42 -4.14,-1.42 ; -4.14,-0.42 -4.14,-1.42 ; -3.76,1.42 -2.76,1.42 ; -3.14,-1.42 -4.14,-1.42 ; -2.76,0.42 -2.76,1.42 ; -2.76,2.42 -2.76,1.42 ; -2.38,-1.42 -1.38,-1.42 ; -1.76,1.42 -2.76,1.42 ; -1.38,-2.42 -1.38,-1.42 ; -1.38,-0.42 -1.38,-1.42 ; -1,0 0,0 ; -1,1.42 0,1.42 ; -0.38,-1.42 -1.38,-1.42 ; 0,-1 0,0 ; 0,0.42 0,1.42 ; 0,1 0,0 ; 0,2.42 0,1.42 ; 0.38,-1.42 1.38,-1.42 ; 1,0 0,0 ; 1,1.42 0,1.42 ; 1.38,-2.42 1.38,-1.42 ; 1.38,-0.42 1.38,-1.42 ; 1.76,1.42 2.76,1.42 ; 2.38,-1.42 1.38,-1.42 ; 2.76,0.42 2.76,1.42 ; 2.76,2.42 2.76,1.42 ; 3.14,-1.42 4.14,-1.42 ; 3.76,1.42 2.76,1.42 ; 4.14,-2.42 4.14,-1.42 ; 4.14,-0.42 4.14,-1.42 ; 4.52,1.42 5.52,1.42 ; 5.14,-1.42 4.14,-1.42 ; 5.52,0.42 5.52,1.42 ; 5.52,2.42 5.52,1.42 ; 5.9,-1.42 6.9,-1.42 ; 6.52,1.42 5.52,1.42 ; 6.9,-2.42 6.9,-1.42 ; 6.9,-0.42 6.9,-1.42 ; 7.28,1.42 8.28,1.42 ; 7.9,-1.42 6.9,-1.42 ; 8.28,0.42 8.28,1.42 ; 8.28,2.42 8.28,1.42 ; 8.66,-1.42 9.66,-1.42 ; 9.28,1.42 8.28,1.42 ; 9.66,-2.42 9.66,-1.42 ; 9.66,-0.42 9.66,-1.42 ; 10.04,1.42 11.04,1.42 ; 10.66,-1.42 9.66,-1.42 ; 11.04,0.42 11.04,1.42 ; 11.04,2.42 11.04,1.42 ; 11.42,-1.42 12.42,-1.42 ; 12.04,1.42 11.04,1.42 ; 12.42,-2.42 12.42,-1.42 ; 12.42,-0.42 12.42,-1.42 ; 12.8,1.42 13.8,1.42 ; 13.42,-1.42 12.42,-1.42 ; 13.8,0.42 13.8,1.42 ; 13.8,2.42 13.8,1.42 ; 14.18,-1.42 15.18,-1.42 ; 14.8,1.42 13.8,1.42 ; 15.18,-2.42 15.18,-1.42 ; 15.18,-0.42 15.18,-1.42 ; 15.56,1.42 16.56,1.42 ; 16.18,-1.42 15.18,-1.42 ; 16.56,0.42 16.56,1.42 ; 16.56,2.42 16.56,1.42 ; 17.56,1.42 16.56,1.42 ; 22.52,0 23.52,0 ; 23.52,-1 23.52,0 ; 23.52,1 23.52,0 ; 24.52,0 23.52,0
Mechanical 14:
  circle w0.1: c-23.52,0 r1.5
  circle w0.1: c23.52,0 r1.5
  lines w0.1: -26.6,-4.75 ccw(c-25.1,-4.75) -25.1,-6.25 25.1,-6.25 ccw(c25.1,-4.75) 26.6,-4.75 26.6,4.75 ccw(c25.1,4.75) 25.1,6.25 -25.1,6.25 ccw(c-25.1,4.75) -26.6,4.75 -26.6,-4.75 ; -19.883,0.977 cw(c-16.83,1.515) -16.83,4.615 16.83,4.615 cw(c16.83,1.515) 19.883,0.977 19.349,-2.053 cw(c16.296,-1.515) 16.296,-4.615 -16.296,-4.615 cw(c-16.296,-1.515) -19.349,-2.053 -19.883,0.977 ; -19.391,1.064 cw(c-16.83,1.515) -16.83,4.115 16.83,4.115 cw(c16.83,1.515) 19.391,1.064 18.856,-1.966 cw(c16.296,-1.515) 16.296,-4.115 -16.296,-4.115 cw(c-16.296,-1.515) -18.856,-1.966 -19.391,1.064
3D body "HARTING_09 65 321 7701.stp": height 12.2, standoff -4, extent -26.6,-6.25 26.6,6.25

## HARTING_09 66 111 7501 [mm] "Straight D-SUB 9 Female Contacts with M3 Nut Thread"
height 12.33
pads (11):
  round 1.5 hole 1: 1(5.48,1.42) 2(2.74,1.42) 3(0,1.42) 4(-2.74,1.42) 5(-5.48,1.42) 6(4.11,-1.42) 7(1.37,-1.42) 8(-1.37,-1.42) 9(-4.11,-1.42)
  round 5.5 hole 3.2: 10(-12.495,0) 11(12.495,0)
Top Overlay:
  circle w0.5: c5.48,7.42 r0.25
  lines w0.2: -15.6,-4.75 ccw(c-14.1,-4.75) -14.1,-6.25 14.1,-6.25 ccw(c14.1,-4.75) 15.6,-4.75 15.6,4.75 ccw(c14.1,4.75) 14.1,6.25 -14.1,6.25 ccw(c-14.1,4.75) -15.6,4.75 -15.6,-4.75 ; -8.166,0.949 cw(c-5.605,1.4) -5.605,4 5.605,4 cw(c5.605,1.4) 8.166,0.949 7.672,-1.851 cw(c5.111,-1.4) 5.111,-4 -5.111,-4 cw(c-5.111,-1.4) -7.672,-1.851 -8.166,0.949
  text "9" at -6.41,-2.17 h1.5
  text "6" at 5.41,-2.17 h1.5
  text "1" at 6.78,0.67 h1.5
  text "5" at -7.5,0.7 h1.5
Mechanical 8:
  lines w0.1: -6.48,1.42 -5.48,1.42 ; -5.48,0.42 -5.48,1.42 ; -5.48,2.42 -5.48,1.42 ; -5.11,-1.42 -4.11,-1.42 ; -4.48,1.42 -5.48,1.42 ; -4.11,-2.42 -4.11,-1.42 ; -4.11,-0.42 -4.11,-1.42 ; -3.74,1.42 -2.74,1.42 ; -3.11,-1.42 -4.11,-1.42 ; -2.74,0.42 -2.74,1.42 ; -2.74,2.42 -2.74,1.42 ; -2.37,-1.42 -1.37,-1.42 ; -1.74,1.42 -2.74,1.42 ; -1.37,-2.42 -1.37,-1.42 ; -1.37,-0.42 -1.37,-1.42 ; -1,0 0,0 ; -1,1.42 0,1.42 ; -0.37,-1.42 -1.37,-1.42 ; 0,-1 0,0 ; 0,0.42 0,1.42 ; 0,1 0,0 ; 0,2.42 0,1.42 ; 0.37,-1.42 1.37,-1.42 ; 1,0 0,0 ; 1,1.42 0,1.42 ; 1.37,-2.42 1.37,-1.42 ; 1.37,-0.42 1.37,-1.42 ; 1.74,1.42 2.74,1.42 ; 2.37,-1.42 1.37,-1.42 ; 2.74,0.42 2.74,1.42 ; 2.74,2.42 2.74,1.42 ; 3.11,-1.42 4.11,-1.42 ; 3.74,1.42 2.74,1.42 ; 4.11,-2.42 4.11,-1.42 ; 4.11,-0.42 4.11,-1.42 ; 4.48,1.42 5.48,1.42 ; 5.11,-1.42 4.11,-1.42 ; 5.48,0.42 5.48,1.42 ; 5.48,2.42 5.48,1.42 ; 6.48,1.42 5.48,1.42
Mechanical 14:
  circle w0.1: c-12.5,0 r1.5
  circle w0.1: c12.5,0 r1.5
  lines w0.1: -15.6,-4.75 ccw(c-14.1,-4.75) -14.1,-6.25 14.1,-6.25 ccw(c14.1,-4.75) 15.6,-4.75 15.6,4.75 ccw(c14.1,4.75) 14.1,6.25 -14.1,6.25 ccw(c-14.1,4.75) -15.6,4.75 -15.6,-4.75 ; -8.166,0.949 cw(c-5.605,1.4) -5.605,4 5.605,4 cw(c5.605,1.4) 8.166,0.949 7.672,-1.851 cw(c5.111,-1.4) 5.111,-4 -5.111,-4 cw(c-5.111,-1.4) -7.672,-1.851 -8.166,0.949 ; -7.673,1.035 cw(c-5.605,1.4) -5.605,3.5 5.605,3.5 cw(c5.605,1.4) 7.673,1.035 7.179,-1.765 cw(c5.111,-1.4) 5.111,-3.5 -5.111,-3.5 cw(c-5.111,-1.4) -7.179,-1.765 -7.673,1.035
3D body "HARTING_09 66 111 7501.stp": height 12.33, standoff -4, extent -15.6,-6.25 15.6,6.25

## HARTING_09 66 152 6612 [mm] "Right Angled D-Sub 9 Female Contacts With Grounding Board Locks And UNC 4-40 Flange"
height 13.6
pads (11):
  round 1.7 hole 1: 1(-5.48,-1.27) 2(-2.74,-1.27) 3(0,-1.27) 4(2.74,-1.27) 5(5.48,-1.27) 6(-4.11,1.27) 7(-1.37,1.27) 8(1.37,1.27) 9(4.11,1.27)
  round 5.5 hole 3.2: 10(-12.5,0) 11(12.5,0)
Top Overlay:
  lines w0.2: -15.6,7.17 15.6,7.17 ; -15.6,11.17 15.6,11.17 ; -9.15,7.17 -9.15,5.57 9.15,5.57 9.15,7.17 ; -8.6,5.57 -8.6,2.67 8.6,2.67 8.6,5.57 ; -8.205,11.67 -8.205,17.37 cw(c-7.705,17.37) -7.705,17.87 7.704,17.87 cw(c7.704,17.37) 8.204,17.37 8.204,11.67 ; -7.1,-3.33 -7.1,2.67 ; 7.1,-3.33 7.1,2.67 ; -15.6,-3.33 15.6,-3.33 15.6,11.67 -15.6,11.67 -15.6,-3.33
  text "9" at 7.656,0.508 h1.5
  text "6" at -8.566,0.433 h1.5
  text "5" at 7.656,-2.032 h1.5
  text "1" at -8.439,-2.107 h1.5
Mechanical 8:
  lines w0.1: -13,0 -12.5,0 ; -12.5,-0.5 -12.5,0 ; -12.5,0.5 -12.5,0 ; -12,0 -12.5,0 ; -5.98,-1.27 -5.48,-1.27 ; -5.48,-1.77 -5.48,-1.27 ; -5.48,-0.77 -5.48,-1.27 ; -4.98,-1.27 -5.48,-1.27 ; -4.61,1.27 -4.11,1.27 ; -4.11,0.77 -4.11,1.27 ; -4.11,1.77 -4.11,1.27 ; -3.61,1.27 -4.11,1.27 ; -3.24,-1.27 -2.74,-1.27 ; -2.74,-1.77 -2.74,-1.27 ; -2.74,-0.77 -2.74,-1.27 ; -2.24,-1.27 -2.74,-1.27 ; -1.87,1.27 -1.37,1.27 ; -1.37,0.77 -1.37,1.27 ; -1.37,1.77 -1.37,1.27 ; -0.87,1.27 -1.37,1.27 ; -0.5,-1.27 0,-1.27 ; -0.5,0 0,0 ; 0,-1.77 0,-1.27 ; 0,-0.77 0,-1.27 ; 0,-0.5 0,0 ; 0,0.5 0,0 ; 0.5,-1.27 0,-1.27 ; 0.5,0 0,0 ; 0.87,1.27 1.37,1.27 ; 1.37,0.77 1.37,1.27 ; 1.37,1.77 1.37,1.27 ; 1.87,1.27 1.37,1.27 ; 2.24,-1.27 2.74,-1.27 ; 2.74,-1.77 2.74,-1.27 ; 2.74,-0.77 2.74,-1.27 ; 3.24,-1.27 2.74,-1.27 ; 3.61,1.27 4.11,1.27 ; 4.11,0.77 4.11,1.27 ; 4.11,1.77 4.11,1.27 ; 4.61,1.27 4.11,1.27 ; 4.98,-1.27 5.48,-1.27 ; 5.48,-1.77 5.48,-1.27 ; 5.48,-0.77 5.48,-1.27 ; 5.98,-1.27 5.48,-1.27 ; 12,0 12.5,0 ; 12.5,-0.5 12.5,0 ; 12.5,0.5 12.5,0 ; 13,0 12.5,0
Mechanical 14:
  circle w0.1: c-12.5,0 r1.6
  circle w0.1: c12.5,0 r1.6
  lines w0.1: -15.6,7.17 15.6,7.17 ; -15.6,11.17 15.6,11.17 ; -9.15,7.17 -9.15,5.57 9.15,5.57 9.15,7.17 ; -8.6,5.57 -8.6,2.67 -5.78,2.67 ; -8.205,11.67 -8.205,17.37 cw(c-7.705,17.37) -7.705,17.87 7.704,17.87 cw(c7.704,17.37) 8.204,17.37 8.204,11.67 ; -7.1,-3.33 -7.1,2.67 ; -5.78,5.57 -5.78,-1.27 ccw(c-5.48,-1.27) -5.18,-1.27 -5.18,5.57 ; -5.18,2.67 -4.41,2.67 ; -4.409,5.57 -4.41,1.27 ccw(c-4.11,1.27) -3.81,1.27 -3.81,5.57 ; -3.81,2.67 -3.04,2.67 ; -3.04,5.57 -3.04,-1.27 ccw(c-2.74,-1.27) -2.44,-1.27 -2.44,5.57 ; -2.44,2.67 -1.67,2.67 ; -1.669,5.57 -1.67,1.27 ccw(c-1.37,1.27) -1.07,1.27 -1.07,5.57 ; -1.07,2.67 -0.3,2.67 ; -0.3,5.57 -0.3,-1.27 ccw(c0,-1.27) 0.3,-1.27 0.3,5.57 ; 0.3,2.67 1.07,2.67 ; 1.071,5.57 1.07,1.27 ccw(c1.37,1.27) 1.67,1.27 1.67,5.57 ; 1.67,2.67 2.44,2.67 ; 2.44,5.57 2.44,-1.27 ccw(c2.74,-1.27) 3.04,-1.27 3.04,5.57 ; 3.04,2.67 3.81,2.67 ; 3.811,5.57 3.81,1.27 ccw(c4.11,1.27) 4.41,1.27 4.41,5.57 ; 4.41,2.67 5.18,2.67 ; 5.18,5.57 5.18,-1.27 ccw(c5.48,-1.27) 5.78,-1.27 5.78,5.57 ; 5.78,2.67 8.6,2.67 8.6,5.57 ; 7.1,-3.33 7.1,2.67 ; -15.6,-3.33 15.6,-3.33 15.6,11.67 -15.6,11.67 -15.6,-3.33
  text "5" at 7.656,-2.032 h1.5
  text "9" at 7.656,0.508 h1.5
  text "6" at -8.566,0.433 h1.5
  text "1" at -8.439,-2.107 h1.5
3D body "HARTING_09 66 152 6612.stp": height 13.6, standoff -3.2, extent -15.6,-3.33 15.6,17.87

## HARTING_09 66 351 6512 [mm] "Straight D-Sub 25 Female Contacts with 4-40 UNC Flange Thread"
height 12.3
pads (27):
  round 1.5 hole 1: 1(16.56,1.42) 2(13.8,1.42) 3(11.04,1.42) 4(8.28,1.42) 5(5.52,1.42) 6(2.76,1.42) 7(0,1.42) 8(-2.76,1.42) 9(-5.52,1.42) 10(-8.28,1.42) 11(-11.04,1.42) 12(-13.8,1.42) 13(-16.56,1.42) 14(15.18,-1.42) 15(12.42,-1.42) 16(9.66,-1.42) 17(6.9,-1.42) 18(4.14,-1.42) 19(1.38,-1.42) 20(-1.38,-1.42) 21(-4.14,-1.42) 22(-6.9,-1.42) 23(-9.66,-1.42) 24(-12.42,-1.42) 25(-15.18,-1.42)
  round 5.5 hole 3.2: 26(23.52,0) 27(-23.52,0)
Top Overlay:
  circle w0.5: c16.25,7.1 r0.25
  lines w0.2: -26.6,-4.75 ccw(c-25.1,-4.75) -25.1,-6.25 25.1,-6.25 ccw(c25.1,-4.75) 26.6,-4.75 26.6,4.75 ccw(c25.1,4.75) 25.1,6.25 -25.1,6.25 ccw(c-25.1,4.75) -26.6,4.75 -26.6,-4.75 ; -19.883,0.977 cw(c-16.83,1.515) -16.83,4.615 16.83,4.615 cw(c16.83,1.515) 19.883,0.977 19.349,-2.053 cw(c16.296,-1.515) 16.296,-4.615 -16.296,-4.615 cw(c-16.296,-1.515) -19.349,-2.053 -19.883,0.977
  text "14" at 14,-4.2 h1.5
  text "13" at -17.725,2.575 h1.5
  text "25" at -16.3,-4.2 h1.5
  text "1" at 16.25,2.75 h1.5
Mechanical 8:
  lines w0.1: -24.52,0 -23.52,0 ; -23.52,-1 -23.52,0 ; -23.52,1 -23.52,0 ; -22.52,0 -23.52,0 ; -17.56,1.42 -16.56,1.42 ; -16.56,0.42 -16.56,1.42 ; -16.56,2.42 -16.56,1.42 ; -16.18,-1.42 -15.18,-1.42 ; -15.56,1.42 -16.56,1.42 ; -15.18,-2.42 -15.18,-1.42 ; -15.18,-0.42 -15.18,-1.42 ; -14.8,1.42 -13.8,1.42 ; -14.18,-1.42 -15.18,-1.42 ; -13.8,0.42 -13.8,1.42 ; -13.8,2.42 -13.8,1.42 ; -13.42,-1.42 -12.42,-1.42 ; -12.8,1.42 -13.8,1.42 ; -12.42,-2.42 -12.42,-1.42 ; -12.42,-0.42 -12.42,-1.42 ; -12.04,1.42 -11.04,1.42 ; -11.42,-1.42 -12.42,-1.42 ; -11.04,0.42 -11.04,1.42 ; -11.04,2.42 -11.04,1.42 ; -10.66,-1.42 -9.66,-1.42 ; -10.04,1.42 -11.04,1.42 ; -9.66,-2.42 -9.66,-1.42 ; -9.66,-0.42 -9.66,-1.42 ; -9.28,1.42 -8.28,1.42 ; -8.66,-1.42 -9.66,-1.42 ; -8.28,0.42 -8.28,1.42 ; -8.28,2.42 -8.28,1.42 ; -7.9,-1.42 -6.9,-1.42 ; -7.28,1.42 -8.28,1.42 ; -6.9,-2.42 -6.9,-1.42 ; -6.9,-0.42 -6.9,-1.42 ; -6.52,1.42 -5.52,1.42 ; -5.9,-1.42 -6.9,-1.42 ; -5.52,0.42 -5.52,1.42 ; -5.52,2.42 -5.52,1.42 ; -5.14,-1.42 -4.14,-1.42 ; -4.52,1.42 -5.52,1.42 ; -4.14,-2.42 -4.14,-1.42 ; -4.14,-0.42 -4.14,-1.42 ; -3.76,1.42 -2.76,1.42 ; -3.14,-1.42 -4.14,-1.42 ; -2.76,0.42 -2.76,1.42 ; -2.76,2.42 -2.76,1.42 ; -2.38,-1.42 -1.38,-1.42 ; -1.76,1.42 -2.76,1.42 ; -1.38,-2.42 -1.38,-1.42 ; -1.38,-0.42 -1.38,-1.42 ; -1,0 0,0 ; -1,1.42 0,1.42 ; -0.38,-1.42 -1.38,-1.42 ; 0,-1 0,0 ; 0,0.42 0,1.42 ; 0,1 0,0 ; 0,2.42 0,1.42 ; 0.38,-1.42 1.38,-1.42 ; 1,0 0,0 ; 1,1.42 0,1.42 ; 1.38,-2.42 1.38,-1.42 ; 1.38,-0.42 1.38,-1.42 ; 1.76,1.42 2.76,1.42 ; 2.38,-1.42 1.38,-1.42 ; 2.76,0.42 2.76,1.42 ; 2.76,2.42 2.76,1.42 ; 3.14,-1.42 4.14,-1.42 ; 3.76,1.42 2.76,1.42 ; 4.14,-2.42 4.14,-1.42 ; 4.14,-0.42 4.14,-1.42 ; 4.52,1.42 5.52,1.42 ; 5.14,-1.42 4.14,-1.42 ; 5.52,0.42 5.52,1.42 ; 5.52,2.42 5.52,1.42 ; 5.9,-1.42 6.9,-1.42 ; 6.52,1.42 5.52,1.42 ; 6.9,-2.42 6.9,-1.42 ; 6.9,-0.42 6.9,-1.42 ; 7.28,1.42 8.28,1.42 ; 7.9,-1.42 6.9,-1.42 ; 8.28,0.42 8.28,1.42 ; 8.28,2.42 8.28,1.42 ; 8.66,-1.42 9.66,-1.42 ; 9.28,1.42 8.28,1.42 ; 9.66,-2.42 9.66,-1.42 ; 9.66,-0.42 9.66,-1.42 ; 10.04,1.42 11.04,1.42 ; 10.66,-1.42 9.66,-1.42 ; 11.04,0.42 11.04,1.42 ; 11.04,2.42 11.04,1.42 ; 11.42,-1.42 12.42,-1.42 ; 12.04,1.42 11.04,1.42 ; 12.42,-2.42 12.42,-1.42 ; 12.42,-0.42 12.42,-1.42 ; 12.8,1.42 13.8,1.42 ; 13.42,-1.42 12.42,-1.42 ; 13.8,0.42 13.8,1.42 ; 13.8,2.42 13.8,1.42 ; 14.18,-1.42 15.18,-1.42 ; 14.8,1.42 13.8,1.42 ; 15.18,-2.42 15.18,-1.42 ; 15.18,-0.42 15.18,-1.42 ; 15.56,1.42 16.56,1.42 ; 16.18,-1.42 15.18,-1.42 ; 16.56,0.42 16.56,1.42 ; 16.56,2.42 16.56,1.42 ; 17.56,1.42 16.56,1.42 ; 22.52,0 23.52,0 ; 23.52,-1 23.52,0 ; 23.52,1 23.52,0 ; 24.52,0 23.52,0
Mechanical 14:
  circle w0.1: c-23.52,0 r1.5
  circle w0.1: c23.52,0 r1.5
  lines w0.1: -26.6,-4.75 ccw(c-25.1,-4.75) -25.1,-6.25 25.1,-6.25 ccw(c25.1,-4.75) 26.6,-4.75 26.6,4.75 ccw(c25.1,4.75) 25.1,6.25 -25.1,6.25 ccw(c-25.1,4.75) -26.6,4.75 -26.6,-4.75 ; -19.883,0.977 cw(c-16.83,1.515) -16.83,4.615 16.83,4.615 cw(c16.83,1.515) 19.883,0.977 19.349,-2.053 cw(c16.296,-1.515) 16.296,-4.615 -16.296,-4.615 cw(c-16.296,-1.515) -19.349,-2.053 -19.883,0.977 ; -19.391,1.064 cw(c-16.83,1.515) -16.83,4.115 16.83,4.115 cw(c16.83,1.515) 19.391,1.064 18.856,-1.966 cw(c16.296,-1.515) 16.296,-4.115 -16.296,-4.115 cw(c-16.296,-1.515) -18.856,-1.966 -19.391,1.064
3D body "HARTING_09 66 351 6512.stp": height 12.33, standoff -4, extent -26.6,-6.25 26.6,6.25

## ITWMCMURDO_SDB25SNT [mm] "25 Way Right Angled Female D-sub Connector"
height 12.5
pads (27):
  round 1.5 hole 0.9: 1(-16.56,-12.84) 2(-13.8,-12.84) 3(-11.04,-12.84) 4(-8.28,-12.84) 5(-5.52,-12.84) 6(-2.76,-12.84) 7(0,-12.84) 8(2.76,-12.84) 9(5.52,-12.84) 10(8.28,-12.84) 11(11.04,-12.84) 12(13.8,-12.84) 13(16.56,-12.84) 14(-15.18,-10.3) 15(-12.42,-10.3) 16(-9.66,-10.3) 17(-6.9,-10.3) 18(-4.14,-10.3) 19(-1.38,-10.3) 20(1.38,-10.3) 21(4.14,-10.3) 22(6.9,-10.3) 23(9.66,-10.3) 24(12.42,-10.3) 25(15.18,-10.3)
  round 5.25 hole 3.2: 26(-23.5,-11.57) 27(23.5,-11.57)
Top Overlay:
  lines w0.254: -26.571,-2 -20.671,-2 ; -26.45,-1 -26.45,0 26.45,0 26.45,-1 ; -26,0 -26,6.2 -21,6.2 -21,0 ; -20.671,-1 -20.671,-4.9 20.729,-4.9 20.729,-1 ; -20.371,-4.9 -20.371,-14.67 -26.571,-14.67 -26.571,-1 26.629,-1 26.629,-14.67 20.429,-14.67 20.429,-4.9 ; -19.25,0 -19.25,6.2 19.25,6.2 19.25,0 ; 20.729,-2 26.629,-2 ; 21,0 21,6.2 26,6.2 26,0
  text "25" at 16.51,-10.668 h1.02
  text "14" at -17.907,-10.795 h1.02
  text "13" at 17.907,-13.208 h1.02
  text "1" at -18.542,-13.208 h1.02
Mechanical 14:
  lines w0.1: -26.571,-2 -20.671,-2 ; -26.45,-1 -26.45,0 26.45,0 26.45,-1 ; -26,0 -26,6.2 -21,6.2 -21,0 ; -20.671,-1 -20.671,-4.9 20.729,-4.9 20.729,-1 ; -20.371,-4.9 -20.371,-14.67 -26.571,-14.67 -26.571,-1 26.629,-1 26.629,-14.67 20.429,-14.67 20.429,-4.9 ; -19.25,0 -19.25,6.2 19.25,6.2 19.25,0 ; 20.729,-2 26.629,-2 ; 21,0 21,6.2 26,6.2 26,0
  text "25" at 16.51,-10.668 h1.02
  text "14" at -17.907,-10.795 h1.02
  text "13" at 17.907,-13.208 h1.02
  text "1" at -18.542,-13.208 h1.02
3D body "ITWMCMURDO_SDB25SNT.stp": height 12.93, standoff -5, extent -26.71,-14.67 26.71,6.2

## TYCO_1-338309-2 [mm] "Straight D-SUB 9 Male Contacts Connector with Harpoons and Female Screwlock (UNC4-40)"
height 11.7
pads (11):
  round 1.5 hole 0.8: 1(-5.486,1.423) 2(-2.743,1.423) 3(0,1.423) 4(2.743,1.423) 5(5.486,1.423) 6(-4.114,-1.423) 7(-1.371,-1.423) 8(1.372,-1.423) 9(4.115,-1.423)
  round 3.8 hole 3.2: 10(-12.495,0) 11(12.495,0)
Top Overlay:
  circle w0.5: c-5.48,7.42 r0.25
  lines w0.2: -15.445,-4.7 ccw(c-13.945,-4.7) -13.945,-6.2 13.945,-6.2 ccw(c13.945,-4.7) 15.445,-4.7 15.445,4.7 ccw(c13.945,4.7) 13.945,6.2 -13.945,6.2 ccw(c-13.945,4.7) -15.445,4.7 -15.445,-4.7 ; -8.775,1.021 cw(c-5.83,1.54) -5.83,4.53 5.83,4.53 cw(c5.83,1.54) 8.775,1.021 8.232,-2.059 cw(c5.287,-1.54) 5.287,-4.53 -5.287,-4.53 cw(c-5.287,-1.54) -8.231,-2.059 -8.775,1.021 ; -8.381,1.09 cw(c-5.83,1.54) -5.83,4.13 5.83,4.13 cw(c5.83,1.54) 8.381,1.09 7.838,-1.99 cw(c5.287,-1.54) 5.287,-4.13 -5.287,-4.13 cw(c-5.287,-1.54) -7.838,-1.99 -8.381,1.09
  text "9" at 5.485,-2.02 h1.2
  text "1" at -7.18,0.945 h1.2
  text "5" at 6.855,0.87 h1.2
  text "6" at -6.21,-1.97 h1.2
Mechanical 8:
  lines w0.1: -12.995,0 -12.495,0 ; -12.495,-0.5 -12.495,0 ; -12.495,0.5 -12.495,0 ; -11.995,0 -12.495,0 ; -5.986,1.423 -5.486,1.423 ; -5.486,0.923 -5.486,1.423 ; -5.486,1.923 -5.486,1.423 ; -4.986,1.423 -5.486,1.423 ; -4.614,-1.423 -4.114,-1.423 ; -4.114,-1.923 -4.114,-1.423 ; -4.114,-0.923 -4.114,-1.423 ; -3.614,-1.423 -4.114,-1.423 ; -3.243,1.423 -2.743,1.423 ; -2.743,0.923 -2.743,1.423 ; -2.743,1.923 -2.743,1.423 ; -2.243,1.423 -2.743,1.423 ; -1.871,-1.423 -1.371,-1.423 ; -1.371,-1.923 -1.371,-1.423 ; -1.371,-0.923 -1.371,-1.423 ; -0.871,-1.423 -1.371,-1.423 ; -0.5,0 0,0 ; -0.5,1.423 0,1.423 ; 0,-0.5 0,0 ; 0,0.5 0,0 ; 0,0.923 0,1.423 ; 0,1.923 0,1.423 ; 0.5,0 0,0 ; 0.5,1.423 0,1.423 ; 0.872,-1.423 1.372,-1.423 ; 1.372,-1.923 1.372,-1.423 ; 1.372,-0.923 1.372,-1.423 ; 1.872,-1.423 1.372,-1.423 ; 2.243,1.423 2.743,1.423 ; 2.743,0.923 2.743,1.423 ; 2.743,1.923 2.743,1.423 ; 3.243,1.423 2.743,1.423 ; 3.615,-1.423 4.115,-1.423 ; 4.115,-1.923 4.115,-1.423 ; 4.115,-0.923 4.115,-1.423 ; 4.615,-1.423 4.115,-1.423 ; 4.986,1.423 5.486,1.423 ; 5.486,0.923 5.486,1.423 ; 5.486,1.923 5.486,1.423 ; 5.986,1.423 5.486,1.423 ; 11.995,0 12.495,0 ; 12.495,-0.5 12.495,0 ; 12.495,0.5 12.495,0 ; 12.995,0 12.495,0
Mechanical 14:
  circle w0.1: c-12.495,0 r1.422
  circle w0.1: c12.495,0 r1.422
  circle w0.1: c-5.486,1.423 r0.51
  circle w0.1: c-2.743,1.423 r0.51
  circle w0.1: c0,1.423 r0.51
  circle w0.1: c2.743,1.423 r0.51
  circle w0.1: c5.486,1.423 r0.51
  circle w0.1: c4.115,-1.423 r0.51
  circle w0.1: c1.372,-1.423 r0.51
  circle w0.1: c-1.371,-1.423 r0.51
  circle w0.1: c-4.114,-1.423 r0.51
  lines w0.1: -15.445,-4.7 ccw(c-13.945,-4.7) -13.945,-6.2 13.945,-6.2 ccw(c13.945,-4.7) 15.445,-4.7 15.445,4.7 ccw(c13.945,4.7) 13.945,6.2 -13.945,6.2 ccw(c-13.945,4.7) -15.445,4.7 -15.445,-4.7 ; -8.775,1.021 cw(c-5.83,1.54) -5.83,4.53 5.83,4.53 cw(c5.83,1.54) 8.775,1.021 8.232,-2.059 cw(c5.287,-1.54) 5.287,-4.53 -5.287,-4.53 cw(c-5.287,-1.54) -8.231,-2.059 -8.775,1.021 ; -8.381,1.09 cw(c-5.83,1.54) -5.83,4.13 5.83,4.13 cw(c5.83,1.54) 8.381,1.09 7.838,-1.99 cw(c5.287,-1.54) 5.287,-4.13 -5.287,-4.13 cw(c-5.287,-1.54) -7.838,-1.99 -8.381,1.09
  text "9 D-Sub Male" at -6.053,4.872 h1.2
  text "6" at -6.21,-1.97 h1.2
  text "5" at 6.855,0.87 h1.2
  text "1" at -7.18,0.945 h1.2
  text "9" at 5.485,-2.02 h1.2
3D body "TYCO_1-338309-2.stp": height 11.95, standoff -3.2, extent -15.445,-6.2 15.445,6.2

## TYCO_1-1393480-7 [mm] "Right Angle D-SUB 9 Female Contacts for PCB, with Grounding Straps, Without Grounding Indents, and Without Mating Connector Lock"
height 10.06
pads (11):
  round 1.5 hole 0.9: 1(-5.48,-1.27) 2(-2.74,-1.27) 3(0,-1.27) 4(2.74,-1.27) 5(5.48,-1.27) 6(-4.11,1.27) 7(-1.37,1.27) 8(1.37,1.27) 9(4.11,1.27)
  round 5.5 hole 3.2: 10(-12.5,0) 11(12.5,0)
Top Overlay:
  lines w0.2: -15.595,-0.586 -15.595,-2.92 ccw(c-13.995,-2.92) -13.995,-4.52 -11.195,-4.52 ccw(c-11.195,-2.92) -9.595,-2.92 -9.595,-1.218 ; -15.595,0.586 -15.595,10.48 15.595,10.48 15.595,0.586 ; -15.595,8.03 -11.595,8.03 -11.595,8.53 ; -15.595,8.53 -9.75,8.53 ; -15.595,10.03 15.595,10.03 ; -14.095,8.53 -14.095,10.48 ; -10.195,8.53 -10.195,10.03 ; -9.75,9.33 9.75,9.33 ; -9.75,10.03 -9.75,4.33 9.75,4.33 9.75,10.03 ; -9.595,1.218 -9.595,4.33 ; -8.19,10.48 -8.19,16.48 cw(c-7.89,16.48) -7.89,16.78 7.89,16.78 cw(c7.89,16.48) 8.19,16.48 8.19,10.48 ; 9.595,-1.218 9.595,-2.92 ccw(c11.195,-2.92) 11.195,-4.52 13.995,-4.52 ccw(c13.995,-2.92) 15.595,-2.92 15.595,-0.586 ; 9.595,1.218 9.595,4.33 ; 9.75,8.53 15.595,8.53 ; 10.195,8.53 10.195,10.03 ; 11.595,8.53 11.595,8.03 15.595,8.03 ; 14.095,8.53 14.095,10.48
  text "6" at -7.366,0.508 h1.5
  text "5" at 6.731,-2.032 h1.5
  text "1" at -7.239,-2.032 h1.5
  text "9" at 6.731,0.508 h1.5
Mechanical 8:
  lines w0.1: -15.595,8.53 0,8.53 15.595,8.53 ; -13,0 -12.5,0 ; -12.5,-0.5 -12.5,0 ; -12.5,0.5 -12.5,0 ; -12,0 -12.5,0 ; -5.98,-1.27 -5.48,-1.27 ; -5.48,-1.77 -5.48,-1.27 ; -5.48,-0.77 -5.48,-1.27 ; -4.98,-1.27 -5.48,-1.27 ; -4.61,1.27 -4.11,1.27 ; -4.11,0.77 -4.11,1.27 ; -4.11,1.77 -4.11,1.27 ; -3.61,1.27 -4.11,1.27 ; -3.24,-1.27 -2.74,-1.27 ; -2.74,-1.77 -2.74,-1.27 ; -2.74,-0.77 -2.74,-1.27 ; -2.24,-1.27 -2.74,-1.27 ; -1.87,1.27 -1.37,1.27 ; -1.37,0.77 -1.37,1.27 ; -1.37,1.77 -1.37,1.27 ; -0.87,1.27 -1.37,1.27 ; -0.5,-1.27 0,-1.27 ; -0.5,0 0,0 ; 0,-1.77 0,-1.27 ; 0,-0.77 0,-1.27 ; 0,-0.5 0,0 ; 0,0.5 0,0 ; 0.5,-1.27 0,-1.27 ; 0.5,0 0,0 ; 0.87,1.27 1.37,1.27 ; 1.37,0.77 1.37,1.27 ; 1.37,1.77 1.37,1.27 ; 1.87,1.27 1.37,1.27 ; 2.24,-1.27 2.74,-1.27 ; 2.74,-1.77 2.74,-1.27 ; 2.74,-0.77 2.74,-1.27 ; 3.24,-1.27 2.74,-1.27 ; 3.61,1.27 4.11,1.27 ; 4.11,0.77 4.11,1.27 ; 4.11,1.77 4.11,1.27 ; 4.61,1.27 4.11,1.27 ; 4.98,-1.27 5.48,-1.27 ; 5.48,-1.77 5.48,-1.27 ; 5.48,-0.77 5.48,-1.27 ; 5.98,-1.27 5.48,-1.27 ; 12,0 12.5,0 ; 12.5,-0.5 12.5,0 ; 12.5,0.5 12.5,0 ; 13,0 12.5,0
Mechanical 14:
  circle w0.1: c12.5,0 r1.55
  circle w0.1: c-12.5,0 r1.55
  lines w0.1: -15.595,8.03 -11.595,8.03 -11.595,8.53 ; -15.595,8.53 -9.75,8.53 ; -15.595,10.03 15.595,10.03 ; -14.095,8.53 -14.095,10.48 ; -10.195,8.53 -10.195,10.03 ; -9.75,9.33 9.75,9.33 ; -9.75,10.03 -9.75,4.33 9.75,4.33 9.75,10.03 ; -9.595,4.33 -9.595,-2.92 cw(c-11.195,-2.92) -11.195,-4.52 -13.995,-4.52 cw(c-13.995,-2.92) -15.595,-2.92 -15.595,10.48 15.595,10.48 15.595,-2.92 cw(c13.995,-2.92) 13.995,-4.52 11.195,-4.52 cw(c11.195,-2.92) 9.595,-2.92 9.595,4.33 ; -8.19,10.48 -8.19,16.48 cw(c-7.89,16.48) -7.89,16.78 7.89,16.78 cw(c7.89,16.48) 8.19,16.48 8.19,10.48 ; -5.78,4.33 -5.78,-1.42 -5.18,-1.42 -5.18,4.33 ; -4.41,4.33 -4.41,1.12 -3.81,1.12 -3.81,4.33 ; -3.04,4.33 -3.04,-1.42 -2.44,-1.42 -2.44,4.33 ; -1.67,4.33 -1.67,1.12 -1.07,1.12 -1.07,4.33 ; -0.3,4.33 -0.3,-1.42 0.3,-1.42 0.3,4.33 ; 1.07,4.33 1.07,1.12 1.67,1.12 1.67,4.33 ; 2.44,4.33 2.44,-1.42 3.04,-1.42 3.04,4.33 ; 3.81,4.33 3.81,1.12 4.41,1.12 4.41,4.33 ; 5.18,4.33 5.18,-1.42 5.78,-1.42 5.78,4.33 ; 9.75,8.53 15.595,8.53 ; 10.195,8.53 10.195,10.03 ; 11.595,8.53 11.595,8.03 15.595,8.03 ; 14.095,8.53 14.095,10.48
3D body "TYCO_1-1393480-7.stp": height 10.06, standoff -3.2, extent -15.595,-4.52 15.595,16.78